# Altium schematic symbol library LM1117_family.SchLib: 1 symbol
Pins are listed as number, name and electrical type; pins without a type are passive.

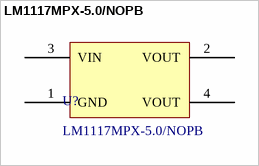
[diagram p0: symbol LM1117MPX-5.0/NOPB]

## LM1117MPX-5.0/NOPB
designator U?
75dB@(120Hz) 800mA Fixed 5V Positive 15V SOT-223-4 Voltage Regulators - Linear, Low Drop Out (LDO) Regulators ROHS; Manufacturer: Texas Instruments; PSRR: 75 dB; Rated Current: 25 uA; Voltage Drop: 1.2V@(800mA); Voltage Input Minimum: 1.45 V; ComponentLink1Description: Datasheet; ComponentLink1URL: https://www.ti.com/lit/gpn/tlv757p; Current Output: 800 mA; LCSC Part #: C730069; Manufacturer Part Number: LM1117MPX-5.0/NOPB; Mount: SMD/SMT; Operating Temperature Max: + 125 C; Operating Temperature Min: 0 C; Package / Case: SOT-223-4; Packaging: Tape and Reel; Product: LDO Voltage Regulators; Supplier 1: Mouser; Supplier 1 Part Number: 926-LM1117MPX5.0NOPB; Supplier 1 URL: https://www.mouser.vn/ProductDetail/Texas-Instruments/LM1117MPX-5.0-NOPB?qs=X1J7HmVL2ZE1O12Qsl7F9g%3D%3D; Supplier 2: Digi-Key; Supplier 2 Part Number: LM1117MPX-5.0/NOPBTR-NDv; Supplier 2 URL: https://www.digikey.com/en/products/detail/texas-instruments/lm1117mpx-5-0-nopb/366734; Supplier 3: thegioiic; Supplier 3 Part Number: N/A; Supplier 3 URL: N/A; Value: LM1117MPX-5.0/NOPB; Voltage Input Maximum: 15V; Voltage Output: 5V
footprint LM1117MPX-5.0/NOPB (SOT223, 4-Leads, Body 6.50x7.00mm (avg), Pitch 2.30mm, IPC Medium Density)
pins: 1 GND (power), 2 VOUT, 3 VIN, 4 VOUT (power)